# Altium footprint library FootPrintLib_6.PcbLib: 588 footprints (part 19 of 37)
Each footprint in its own frame and in the unit in brackets; x right, y up, seen from the top. Pads: shape width x height; smd on the part's side, far side on the other; paste and mask are expansions set on the pad; w line width, h text height; cw(c..) or ccw(c..) is an arc to the next point about the centre after c.
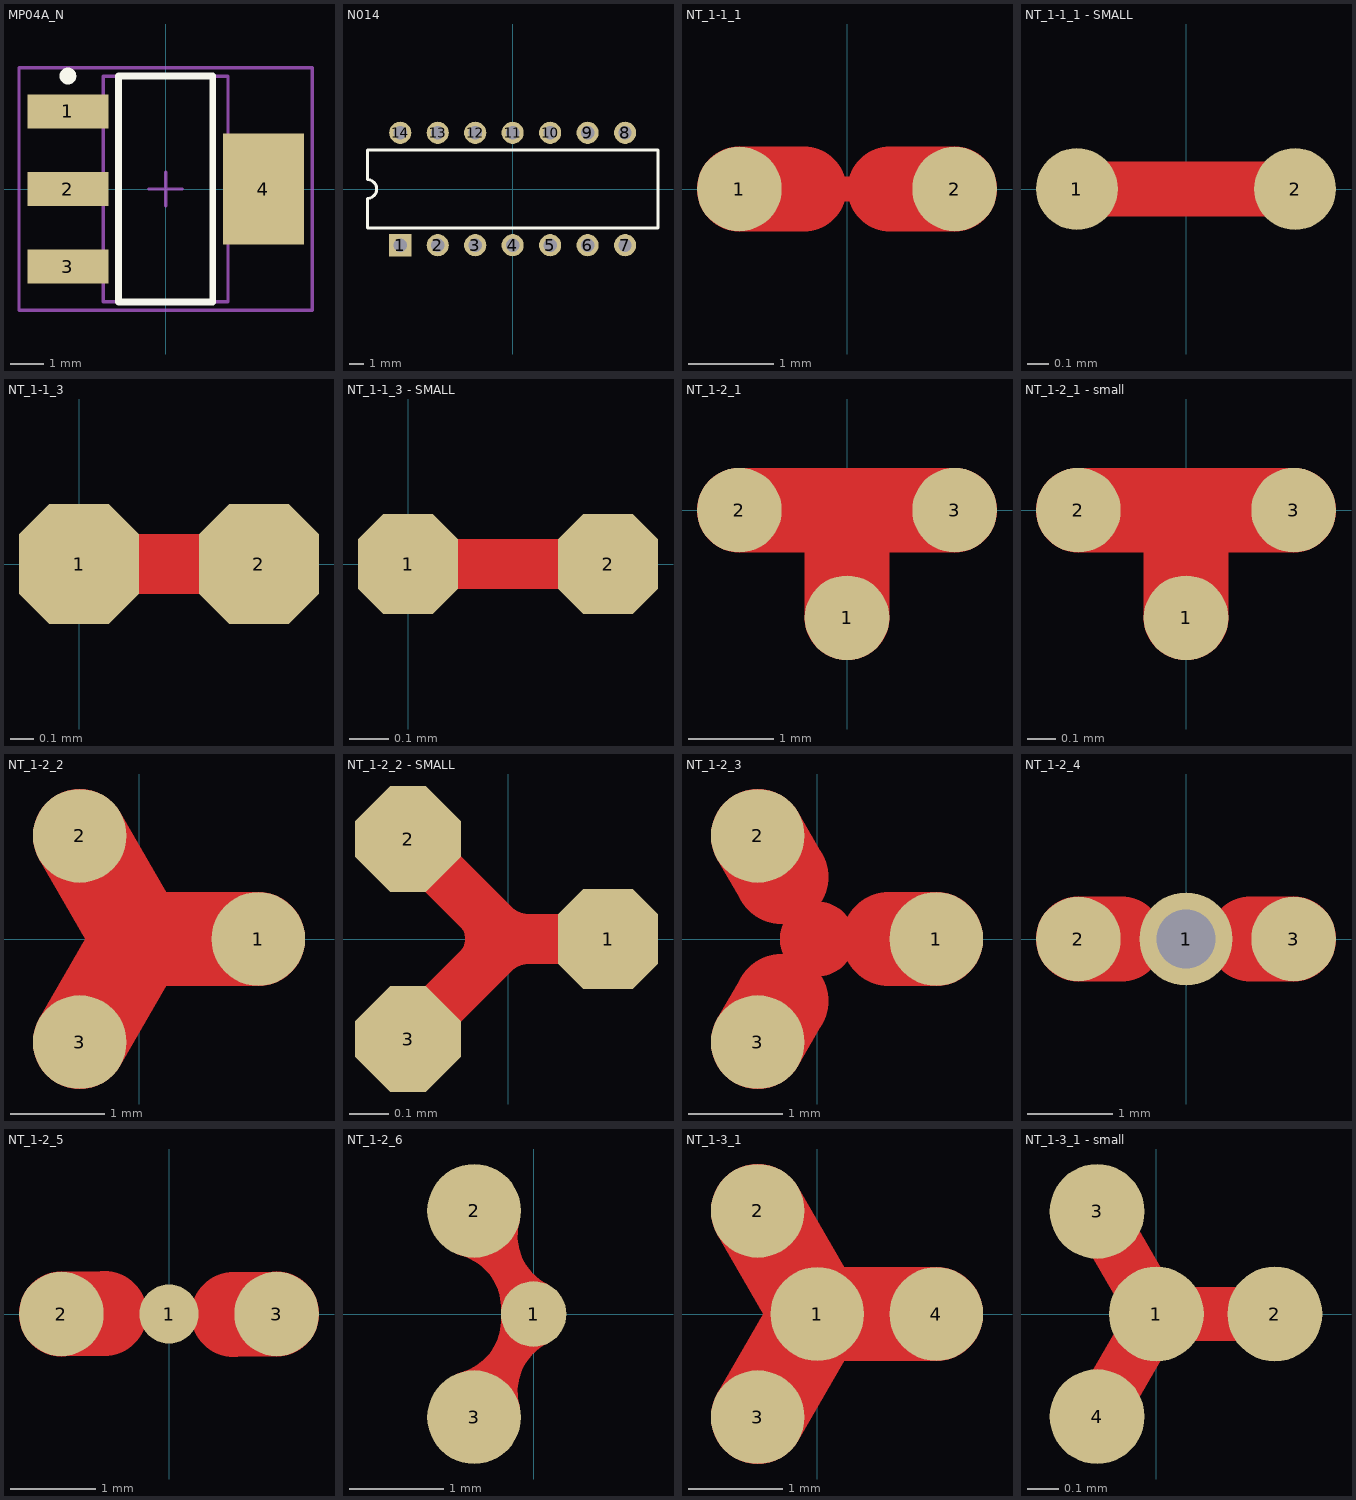
[diagram p18: the footprints below, top view; thin cyan lines are the x and y axes]

## MP04A_N [mm] "SOT223, 4-Leads, Body 6.5x3.5mm, Pitch 2.3mm, Lead Span 7mm, IPC Medium Density"
height 1.8
pads (4):
  rect 2.4x1 smd: 1(-2.9,2.3) 2(-2.9,0) 3(-2.9,-2.3)
  rect 2.4x3.3 smd: 4(2.9,0)
Top Overlay:
  circle w0.25: c-2.9,3.35 r0.125
  lines w0.2: -1.4,-3.35 -1.4,3.35 1.4,3.35 1.4,-3.35 -1.4,-3.35
Mechanical 13:
  lines w0.1: -1.85,-3.35 -1.85,3.35 1.85,3.35 1.85,-3.35 -1.85,-3.35
Mechanical 15:
  lines w0.1: -0.5,0 0.5,0 ; 0,-0.5 0,0.5 ; -4.35,-3.6 -4.35,3.6 4.35,3.6 4.35,-3.6 -4.35,-3.6
3D body "TO-223.STEP": height 1.64, standoff -0.04, extent -3.49,-3.242 3.49,3.242

## N014 [mm] "DIP; 14 Leads; Row Spacing 7.62 mm; Pitch 2.54 mm"
height 5.08
pads (14):
  rect 1.5x1.5 hole 0.9: 1(-7.62,-3.81)
  round 1.5 hole 0.9: 2(-5.08,-3.81) 3(-2.54,-3.81) 4(0,-3.81) 5(2.54,-3.81) 6(5.08,-3.81) 7(7.62,-3.81) 8(7.62,3.81) 9(5.08,3.81) 10(2.54,3.81) 11(0,3.81) 12(-2.54,3.81) 13(-5.08,3.81) 14(-7.62,3.81)
Top Overlay:
  lines w0.2: -9.85,-2.65 -9.85,-0.635 ccw(c-9.85,0) -9.85,0.635 -9.85,2.65 9.85,2.65 9.85,-2.65 -9.85,-2.65

## NT_1-1_1 [mm] "NetTie One to One"
pads (2):
  round 1 smd: 1(-1.27,0) 2(1.27,0)
Top Layer:
  lines w0.3: -0.508,0 0.508,0
  lines w1: -1.27,0 -0.508,0 ; 0.508,0 1.27,0

## NT_1-1_1 - SMALL [mil] "NetTie One to One"
pads (2):
  round 15 smd: 1(-20,0) 2(20,0)
Top Layer:
  lines w10: -20,0 20,0

## NT_1-1_3 [mil] "NetTie One to One"
pads (2):
  oct 20x20 smd: 1(0,0) 2(30,0)
Top Layer:
  lines w10: 0,0 30,0

## NT_1-1_3 - SMALL [mil] "NetTie One to One"
pads (2):
  oct 10x10 smd: 1(0,0) 2(20,0)
Top Layer:
  lines w5: 0,0 20,0

## NT_1-2_1 [mm] "NetTie One to Two"
pads (3):
  round 1 smd: 1(0,-1.27) 2(-1.27,0) 3(1.27,0)
Top Layer:
  lines w1: -1.27,0 1.27,0 ; 0,-1.27 0,0

## NT_1-2_1 - small [mm] "NetTie One to Two"
pads (3):
  round 0.3 smd: 1(0,-0.381) 2(-0.381,0) 3(0.381,0)
Top Layer:
  lines w0.3: -0.381,0 0.381,0 ; 0,-0.381 0,0

## NT_1-2_2 [mm] "NetTie One to Two"
pads (3):
  round 1 smd: 1(1.27,0) 2(-0.635,1.1) 3(-0.635,-1.1)
Top Layer:
  lines w1: -0.635,-1.1 0,0 ; -0.635,1.1 0,0 ; 1.27,0 0,0

## NT_1-2_2 - SMALL [mil] "NetTie One to Two"
pads (3):
  oct 10x10 smd: 1(10,0)
  oct 10x10 smd rot 45: 2(-10,10) 3(-10,-10)
Top Layer:
  lines w2: -4.33,-2.21 ccw(c-6.16,0) -4.32,2.2 ; -0.79,-2.88 cw(c2.28,-5.59) 2.5,-1.5 ; -0.79,2.88 ccw(c2.28,5.59) 2.5,1.5
  lines w5: -7,-7 0,0 ; -7,7 0,0 ; 10,0 0,0

## NT_1-2_3 [mm] "NetTie One to Two"
pads (3):
  round 1 smd: 1(1.27,0) 2(-0.635,1.1) 3(-0.635,-1.1)
Top Layer:
  circle w0.4: c0,0 r0.2
  lines w1: -0.635,-1.1 -0.381,-0.66 ; -0.635,1.1 -0.381,0.66 ; 0.762,0 1.27,0

## NT_1-2_4 [mm] "NetTie One to Two"
pads (3):
  round 1.1 / inner round 0.7 / far side round 1.1 hole 0.7: 1(0,0)
  round 1 smd: 2(-1.27,0) 3(1.27,0)
Top Layer:
  lines w1: -1.27,0 -0.762,0 ; 0.762,0 1.27,0

## NT_1-2_5 [mm] "NetTie One to Two"
pads (3):
  round 0.7 smd: 1(0,0)
  round 1 smd: 2(-1.27,0) 3(1.27,0)
Top Layer:
  lines w1: -1.27,0 -0.762,0.005 ; 0.762,-0.005 1.27,0

## NT_1-2_6 [mm] "NetTie One to Two"
pads (3):
  round 0.7 smd: 1(0,0)
  round 1 smd: 2(-0.635,1.1) 3(-0.635,-1.1)
Top Layer:
  lines w0.254: -0.76,-0.749 ccw(c-0.93,-0.058) -0.221,0.006 ; -0.76,0.752 cw(c-0.93,0.061) -0.221,-0.003 ; -0.27,-1.021 cw(c0.398,-0.825) 0.086,-0.202 ; -0.27,1.026 ccw(c0.398,0.83) 0.086,0.207
  lines w0.3: -0.635,-1.1 0,0 -0.635,1.1

## NT_1-3_1 [mm] "NetTie One to Three"
pads (4):
  round 1 smd: 1(0,0) 2(-0.635,1.1) 3(-0.635,-1.1) 4(1.27,0)
Top Layer:
  lines w1: -0.635,-1.1 0,0 ; -0.635,1.1 0,0 ; 1.27,0 0,0

## NT_1-3_1 - small [mil] "NetTie One to Two"
pads (4):
  round 12 smd: 1(0,0) 2(15,0) 3(-7.5,12.99) 4(-7.5,-12.99)
Top Layer:
  lines w6.89: -7.5,-12.99 0,0 ; -7.5,12.99 0,0 ; 15,0 0,0